# Altium footprint library PcbLib.PcbLib: 19 footprints (part 1 of 2)
Each footprint in its own frame and in the unit in brackets; x right, y up, seen from the top. Pads: shape width x height; smd on the part's side, far side on the other; paste and mask are expansions set on the pad; w line width, h text height; cw(c..) or ccw(c..) is an arc to the next point about the centre after c.
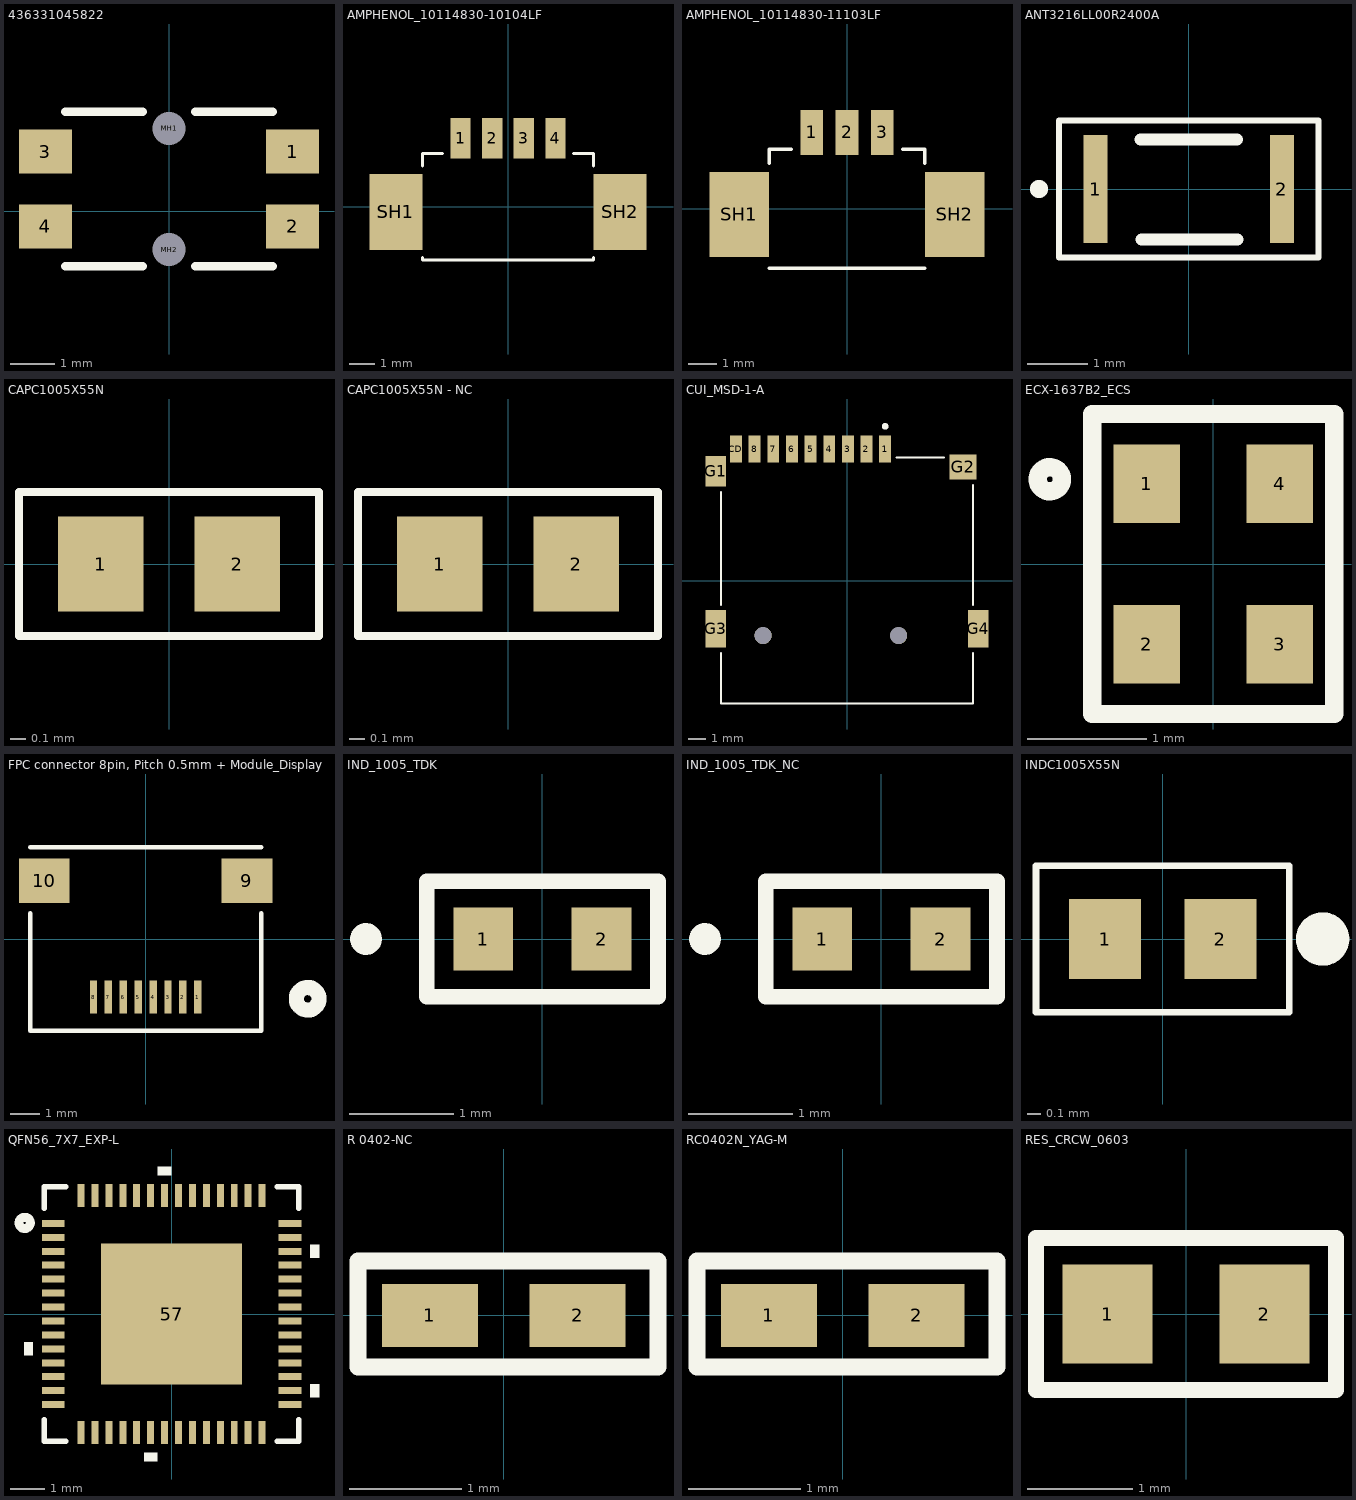
[diagram p0: the footprints below, top view; thin cyan lines are the x and y axes]

## 436331045822 [mm]
pads (6):
  rect 1.2x1 smd: 1(2.8,1.35) 2(2.8,-0.35) 3(-2.8,1.35) 4(-2.8,-0.35)
  round 0.375 hole 0.75 unplated: MH1(0,1.875) MH2(0,-0.875)
Top Overlay:
  lines w0.2: -2.35,-1.25 -0.6,-1.25 ; -2.35,2.25 -0.6,2.25 ; 0.6,-1.25 2.35,-1.25 ; 0.6,2.25 2.35,2.25
3D body "436331045822.stp": height 1.65, standoff -0.5, extent -3.2,-2.242 3.2,2.258

## AMPHENOL_10114830-10104LF [mm]
height 3.4
pads (6):
  rect 0.8x1.6 smd: 1(-1.875,2.7) 2(-0.625,2.7) 3(0.625,2.7) 4(1.875,2.7)
  rect 2.1x3 smd: SH1(-4.425,-0.2) SH2(4.425,-0.2)
Top Overlay:
  lines w0.127: -3.375,-2.014 -3.375,-2.1 3.375,-2.1 3.375,-2.014 ; -3.375,1.613 -3.375,2.1 -2.588,2.1 ; 2.588,2.1 3.375,2.1 3.375,1.613
3D body "step_temp.STEP": height 3.4, standoff 0, extent -5.075,-2.1 5.075,3.2

## AMPHENOL_10114830-11103LF [mm]
height 3.4
pads (5):
  rect 0.8x1.6 smd: 1(-1.25,2.7) 2(0,2.7) 3(1.25,2.7)
  rect 2.1x3 smd: SH1(-3.8,-0.2) SH2(3.8,-0.2)
Top Overlay:
  lines w0.127: -2.75,-2.1 2.75,-2.1 ; -2.75,1.62 -2.75,2.1 -1.965,2.1 ; 1.965,2.1 2.75,2.1 2.75,1.62
3D body "step_temp.STEP": height 3.4, standoff 0, extent -4.45,-2.1 4.45,3.2

## ANT3216LL00R2400A [mm]
pads (2):
  rect 0.4x1.8 smd: 1(-1.55,0) 2(1.55,0)
Top Overlay:
  lines w0.1: -2.159,-1.143 2.159,-1.143 2.159,1.143 -2.159,1.143 -2.159,-1.143
  lines w0.2: -0.8,0.826 0.8,0.826 ; -0.787,-0.838 0.813,-0.838 ; -2.54,0 ccw(c-2.49,0) -2.44,0 ; -2.54,0 cw(c-2.49,0) -2.44,0 ; -2.54,0 ccw(c-2.49,0) -2.44,0
3D body "ANT3216LL00R2400A.stp": height 1.21, standoff 0, extent -1.6,-0.801 1.6,0.801

## CAPC1005X55N [mm]
pads (2):
  rect 0.54x0.6 smd paste+0 mask+0.102: 1(-0.432,0) 2(0.432,0)
Top Overlay:
  lines w0.05: -0.95,-0.457 0.95,-0.457 0.95,0.457 -0.95,0.457 -0.95,-0.457
3D body "step_temp.STEP": height 0.55, standoff 0, extent -0.5,-0.25 0.5,0.25

## CAPC1005X55N - NC [mm]
pads (2):
  rect 0.54x0.6 smd paste+0 mask+0.102: 1(-0.432,0) 2(0.432,0)
Top Overlay:
  lines w0.05: -0.95,-0.457 0.95,-0.457 0.95,0.457 -0.95,0.457 -0.95,-0.457

## CUI_MSD-1-A [mm]
height 2
pads (15):
  rect 0.7x1.6 smd: 1(2.25,7.75) 2(1.15,7.75) 3(0.05,7.75) 4(-1.05,7.75) 5(-2.15,7.75) 6(-3.25,7.75) 7(-4.35,7.75) 8(-5.45,7.75) CD(-6.55,7.75)
  rect 1.2x1.8 smd: G1(-7.75,6.45)
  rect 1.6x1.5 smd: G2(6.85,6.7)
  rect 1.2x2.2 smd: G3(-7.75,-2.85) G4(7.75,-2.85)
  round 1 hole 1 unplated: ""(-4.95,-3.25) ""(3.05,-3.25)
Top Overlay:
  circle w0.2: c2.25,9.1 r0.1
  lines w0.127: -7.425,-4.27 -7.425,-7.25 7.425,-7.25 7.425,-4.27 ; -7.425,-1.43 -7.425,5.23 ; 2.92,7.25 5.73,7.25 ; 7.425,-1.43 7.425,5.63
3D body "step_temp.STEP": height 1.86, standoff -0.54, extent -8.025,-7.3 8.125,7.75

## ECX-1637B2_ECS [mil]
pads (4):
  rect 22x26 smd paste+0 mask+0: 1(-22,26.57) 2(-22,-26.57) 3(22,-26.57) 4(22,26.57)
Top Overlay:
  circle w6: c-54,28 r4
  lines w6: -40,-49.57 40,-49.57 40,49.57 -40,49.57 -40,-49.57
3D body "ECS-400-10-37B2-CKY-TR.STEP": height 19.68, standoff 0, extent -31.5,-39.37 31.5,39.37

## FPC connector 8pin, Pitch 0.5mm + Module_Display 1.14 inch [mm]
pads (10):
  rect 0.25x1.1 smd paste+0 mask+0: 1(1.75,-1.95) 2(1.25,-1.95) 3(0.75,-1.95) 4(0.25,-1.95) 5(-0.25,-1.95) 6(-0.75,-1.95) 7(-1.25,-1.95) 8(-1.75,-1.95)
  rect 1.7x1.5 smd paste-0.85 mask-0.851: 9(3.4,1.95) 10(-3.4,1.95)
Top Overlay:
  circle w0.508: c5.436,-2.007 r0.381
  lines w0.152: -3.877,0.867 -3.877,-3.077 3.877,-3.077 3.877,0.867 ; -3.877,3.077 3.877,3.077
3D body "ER-TFT1.47A1-1.STEP": height 2.29, standoff 0.83, extent -9.616,0.565 9.774,57.845
3D body "XF2M-0815-1A.stp": height 2, standoff 0, extent -4.047,-3.042 4.053,2.858

## IND_1005_TDK [mm]
pads (2):
  rect 0.576x0.6 smd paste+0 mask+0: 1(-0.568,0) 2(0.568,0)
Top Overlay:
  circle w0.152: c-1.694,0 r0.076
  lines w0.152: -1.11,-0.554 -1.11,0.554 1.11,0.554 1.11,-0.554 -1.11,-0.554
3D body "IND_1005_TDK.step": height 0.5, standoff 0, extent -0.5,-0.3 0.5,0.3

## IND_1005_TDK_NC [mm]
pads (2):
  rect 0.576x0.6 smd paste+0 mask+0: 1(-0.568,0) 2(0.568,0)
Top Overlay:
  circle w0.152: c-1.694,0 r0.076
  lines w0.152: -1.11,-0.554 -1.11,0.554 1.11,0.554 1.11,-0.554 -1.11,-0.554

## INDC1005X55N [mm]
pads (2):
  rect 0.54x0.6 smd: 1(-0.432,0) 2(0.432,0)
Top Overlay:
  circle w0.2: c1.2,0 r0.1
  lines w0.05: -0.95,-0.55 0.95,-0.55 0.95,0.55 -0.95,0.55 -0.95,-0.55
3D body "INDC1005X55N.step": height 0.51, standoff 0.01, extent -0.5,-0.279 0.5,0.271

## QFN56_7X7_EXP-L [mm]
pads (57):
  rect 0.65x0.2 smd paste+0 mask+0: 1(-3.4,2.6) 2(-3.4,2.2) 3(-3.4,1.8) 4(-3.4,1.4) 5(-3.4,1) 6(-3.4,0.6) 7(-3.4,0.2) 8(-3.4,-0.2) 9(-3.4,-0.6) 10(-3.4,-1) 11(-3.4,-1.4) 12(-3.4,-1.8) 13(-3.4,-2.2) 14(-3.4,-2.6) 29(3.4,-2.6) 30(3.4,-2.2) 31(3.4,-1.8) 32(3.4,-1.4) 33(3.4,-1) 34(3.4,-0.6) 35(3.4,-0.2) 36(3.4,0.2) 37(3.4,0.6) 38(3.4,1) 39(3.4,1.4) 40(3.4,1.8) 41(3.4,2.2) 42(3.4,2.6)
  rect 0.2x0.65 smd paste+0 mask+0: 15(-2.6,-3.4) 16(-2.2,-3.4) 17(-1.8,-3.4) 18(-1.4,-3.4) 19(-1,-3.4) 20(-0.6,-3.4) 21(-0.2,-3.4) 22(0.2,-3.4) 23(0.6,-3.4) 24(1,-3.4) 25(1.4,-3.4) 26(1.8,-3.4) 27(2.2,-3.4) 28(2.6,-3.4) 43(2.6,3.4) 44(2.2,3.4) 45(1.8,3.4) 46(1.4,3.4) 47(1,3.4) 48(0.6,3.4) 49(0.2,3.4) 50(-0.2,3.4) 51(-0.6,3.4) 52(-1,3.4) 53(-1.4,3.4) 54(-1.8,3.4) 55(-2.2,3.4) 56(-2.6,3.4)
  rect 4.039x4.039 smd paste-2.019 mask+0: 57(0,0)
Top Overlay:
  circle w0.254: c-4.216,2.616 r0.163
  region: -0.009,3.979 -0.39,3.979 -0.39,4.233 -0.009,4.233
  region: 3.979,1.99 4.233,1.99 4.233,1.609 3.979,1.609
  region: 3.979,-2.01 4.233,-2.01 4.233,-2.391 3.979,-2.391
  region: -0.409,-3.979 -0.79,-3.979 -0.79,-4.233 -0.409,-4.233
  region: -3.979,-0.81 -4.233,-0.81 -4.233,-1.191 -3.979,-1.191
  lines w0.152: -3.652,-3.033 -3.652,-3.652 -3.033,-3.652 ; -3.652,3.033 -3.652,3.652 -3.033,3.652 ; 3.033,-3.652 3.652,-3.652 3.652,-3.033 ; 3.033,3.652 3.652,3.652 3.652,3.033
Top Paste:
  region: 1.919,-0.773 0.773,-0.773 0.773,-1.919 1.919,-1.919
  region: 1.919,0.573 0.773,0.573 0.773,-0.573 1.919,-0.573
  region: 1.919,1.919 0.773,1.919 0.773,0.773 1.919,0.773
  region: 0.573,-0.773 -0.573,-0.773 -0.573,-1.919 0.573,-1.919
  region: 0.573,0.573 -0.573,0.573 -0.573,-0.573 0.573,-0.573
  region: 0.573,1.919 -0.573,1.919 -0.573,0.773 0.573,0.773
  region: -0.773,-0.773 -1.919,-0.773 -1.919,-1.919 -0.773,-1.919
  region: -0.773,0.573 -1.919,0.573 -1.919,-0.573 -0.773,-0.573
  region: -0.773,1.919 -1.919,1.919 -1.919,0.773 -0.773,0.773
3D body "QFN56_7X7_EXP.step": height 0.89, standoff 0, extent -3.525,-3.525 3.525,3.525

## R 0402-NC [mm]
pads (2):
  rect 0.855x0.558 smd paste+0 mask+0: 1(-0.656,0) 2(0.656,0)
Top Overlay:
  lines w0.152: -1.295,-0.457 -1.295,0.483 1.372,0.483 1.372,-0.457 -1.295,-0.457

## RC0402N_YAG-M [mm]
pads (2):
  rect 0.855x0.558 smd paste+0 mask+0: 1(-0.656,0) 2(0.656,0)
Top Overlay:
  lines w0.152: -1.295,-0.457 -1.295,0.483 1.372,0.483 1.372,-0.457 -1.295,-0.457
3D body "step_temp.STEP": height 0.4, standoff 0, extent -0.5,-0.25 0.5,0.25

## RES_CRCW_0603 [mil]
pads (2):
  rect 33.78x37 smd paste+0 mask+0: 1(-29.39,0) 2(29.39,0)
Top Overlay:
  lines w6: -56.28,-28.5 -56.28,28.5 56.28,28.5 56.28,-28.5 -56.28,-28.5
Mechanical 13:
3D body "RES_CRCW_0603.step": height 20, standoff 0, extent -32.52,-18.5 32.52,18.5